# Altium schematic symbol library USB_micro_b_CONN_10118193-0001LF_AMP.SchLib: 2 symbols
Pins are listed as number, name and electrical type; pins without a type are passive.

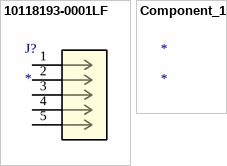
[diagram p0: symbols 10118193-0001LF to Component_1]

## 10118193-0001LF
designator J?
No Description Available; Mfr_Name: Amphenol ICC; Type: USB, DVI, HDMI, Connectors; RefDes: RefDes
footprint CONN_10118193-0001LF_AMP
pins: 1, 2, 3, 4, 5

## Component_1
designator *